# Altium footprint library Raspberry_Pi.PcbLib: 1 footprints
Each footprint in its own frame and in the unit in brackets; x right, y up, seen from the top. Pads: shape width x height; smd on the part's side, far side on the other; paste and mask are expansions set on the pad; w line width, h text height; cw(c..) or ccw(c..) is an arc to the next point about the centre after c.
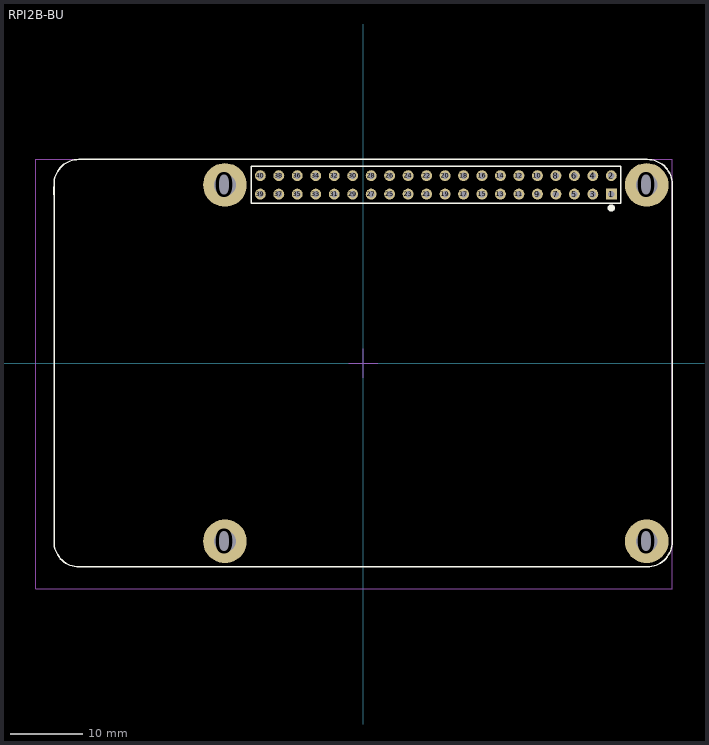
[diagram p0: the footprint, top view; thin cyan lines are the x and y axes]

## RPI2B-BU [mm] "Connector for Raspberry Pi 2 Model B, bottom up"
pads (44):
  round 6 hole 3: 0(-19,-24.5) 0(-19,24.5) 0(39,-24.5) 0(39,24.5)
  rect 1.5x1.5 hole 0.9: 1(34.13,23.23)
  round 1.5 hole 0.9: 2(34.13,25.77) 3(31.59,23.23) 4(31.59,25.77) 5(29.05,23.23) 6(29.05,25.77) 7(26.51,23.23) 8(26.51,25.77) 9(23.97,23.23) 10(23.97,25.77) 11(21.43,23.23) 12(21.43,25.77) 13(18.89,23.23) 14(18.89,25.77) 15(16.35,23.23) 16(16.35,25.77) 17(13.81,23.23) 18(13.81,25.77) 19(11.27,23.23) 20(11.27,25.77) 21(8.73,23.23) 22(8.73,25.77) 23(6.19,23.23) 24(6.19,25.77) 25(3.65,23.23) 26(3.65,25.77) 27(1.11,23.23) 28(1.11,25.77) 29(-1.43,23.23) 30(-1.43,25.77) 31(-3.97,23.23) 32(-3.97,25.77) 33(-6.51,23.23) 34(-6.51,25.77) 35(-9.05,23.23) 36(-9.05,25.77) 37(-11.59,23.23) 38(-11.59,25.77) 39(-14.13,23.23) 40(-14.13,25.77)
Top Overlay:
  circle w0.508: c34.13,21.325 r0.254
  lines w0.2: -42.5,23.135 -42.5,24.25 ; -36.385,28 -36.25,28 ; -33.885,28 -33.75,28 ; -42.5,-24.586 ccw(c-39.086,-24.586) -39.086,-28 39.086,-28 ccw(c39.086,-24.586) 42.5,-24.586 42.5,24.586 ccw(c39.086,24.586) 39.086,28 -39.086,28 ccw(c-39.086,24.586) -42.5,24.586 -42.5,-24.586 ; -15.4,21.96 -15.4,27.04 35.4,27.04 35.4,21.96 13.175,21.96 8.095,21.96 -15.4,21.96
Mechanical 15:
  lines w0.05: -45,-31 -45,28 42.5,28 42.5,-31 -45,-31
  lines w0.1: -2,0 2,0 ; 0,-2 0,2
3D body "Raspberry_Pi_Model_B+_3D_Assy.STEP": height 19.2, standoff -0.2, extent -44.65,-30.75 42.5,27.75
3D body "ESQ-120-23-G-D-LL.stp": height 13.51, standoff -4.91, extent -15.654,21.96 35.654,27.04